# Altium schematic symbol library NB.SchLib: 1 symbol
Pins are listed as number, name and electrical type; pins without a type are passive.

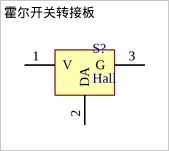
[diagram p0: symbol 霍尔开关转接板]

## 霍尔开关转接板
designator S?, comment Hall
霍尔开关转接板
pins: 1 V (power), 2 DA, 3 G (power)